# Altium footprint library VNESHPORTSRAZ1to4.PcbLib: 2 footprints
Each footprint in its own frame and in the unit in brackets; x right, y up, seen from the top. Pads: shape width x height; smd on the part's side, far side on the other; paste and mask are expansions set on the pad; w line width, h text height; cw(c..) or ccw(c..) is an arc to the next point about the centre after c.
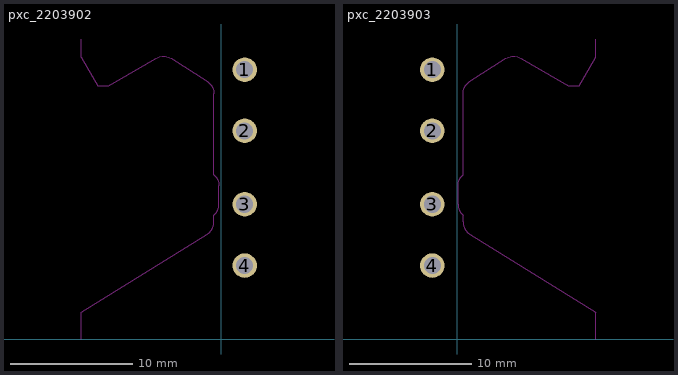
[diagram p0: the footprints below, top view; thin cyan lines are the x and y axes]

## pxc_2203902 [mm]
pads (4):
  round 2 hole 1.4: 1(1.91,22) 2(1.91,17) 3(1.91,11) 4(1.91,6)
Keep-Out Layer:
  lines w0.1: -11.44,0 -11.44,2.2 -1.159,8.548 -0.966,8.697 -0.806,8.881 -0.688,9.094 -0.614,9.327 -0.59,9.569 -0.59,10.106 -0.421,10.292 -0.294,10.51 -0.216,10.75 -0.19,11 -0.19,12.5 -0.216,12.75 -0.294,12.99 -0.421,13.208 -0.59,13.394 -0.59,20.04 -0.614,20.28 -0.685,20.51 -0.801,20.721 -0.957,20.905 -1.147,21.053 -4.076,22.911 -4.31,23.026 -4.564,23.087 -4.824,23.093 -5.08,23.042 -5.319,22.936 -9.19,20.7 -10.09,20.7 -11.44,23 -11.44,24.5
3D body "ICC25-H-4L5.0__01080961_H.Select.stp": height 3.75, standoff -21.25, extent -16.218,1.101 4.128,23.501

## pxc_2203903 [mm]
pads (4):
  round 2 hole 1.4: 1(-2.015,22) 2(-2.015,17) 3(-2.015,11) 4(-2.015,6)
Keep-Out Layer:
  lines w0.1: 11.335,0 11.335,2.2 1.054,8.548 0.861,8.697 0.702,8.881 0.583,9.094 0.509,9.327 0.485,9.569 0.485,10.106 0.316,10.292 0.189,10.51 0.111,10.75 0.085,11 0.085,12.5 0.111,12.75 0.189,12.99 0.316,13.208 0.485,13.394 0.485,20.04 0.509,20.28 0.58,20.51 0.697,20.721 0.853,20.905 1.042,21.053 3.971,22.911 4.205,23.026 4.459,23.087 4.719,23.093 4.975,23.042 5.214,22.936 9.085,20.7 9.985,20.7 11.335,23 11.335,24.5
3D body "ICC25-H-4R5.0__01083879_H.Select.stp": height 20.75, standoff -4.25, extent -4.181,0.986 16.165,23.386